# Altium footprint library Altium_WE_eiSos_WE-DS Solder Cup-TH.PcbLib: 8 footprints
Each footprint in its own frame and in the unit in brackets; x right, y up, seen from the top. Pads: shape width x height; smd on the part's side, far side on the other; paste and mask are expansions set on the pad; w line width, h text height; cw(c..) or ccw(c..) is an arc to the next point about the centre after c.
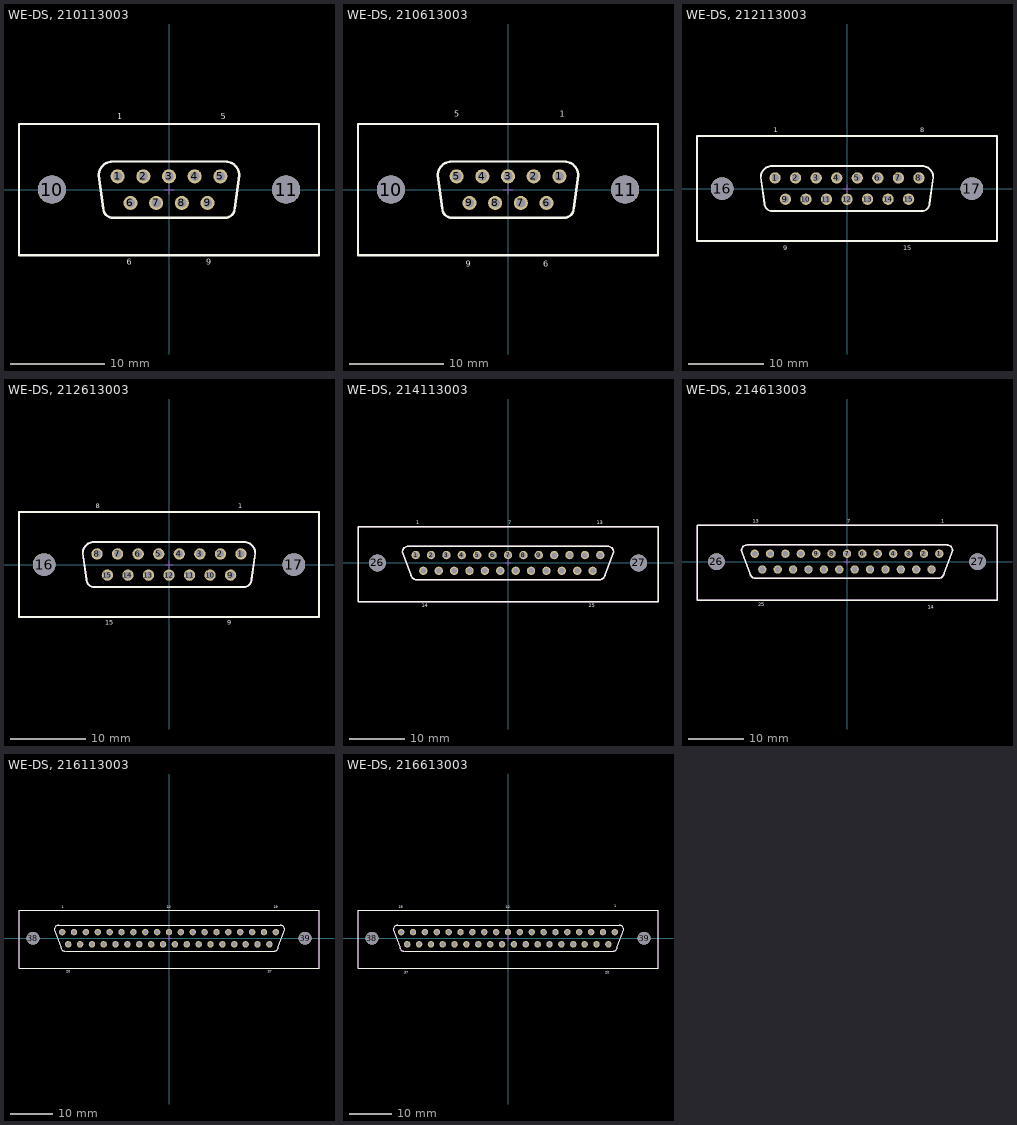
[diagram p0: the footprints below, top view; thin cyan lines are the x and y axes]

## WE-DS, 210113003 [mm] "D-SUB- 9P, MALE, SOLDER BUCKET VERTICAL MOUNT, TH"
height 12
pads (11):
  round 1.5 hole 1 unplated: 1(-5.48,1.42) 2(-2.74,1.42) 3(0,1.42) 4(2.74,1.42) 5(5.48,1.42) 6(-4.11,-1.42) 7(-1.37,-1.42) 8(1.37,-1.42) 9(4.11,-1.42)
  round 3 hole 3 unplated: 10(-12.5,0) 11(12.5,0)
Top Overlay:
  lines w0.254: -5.996,-3.004 cw(c-5.996,-2) -7,-2 -7.5,1.5 cw(c-6,1.5) -6,3 6,3 cw(c6,1.5) 7.5,1.5 7,-2 cw(c5.996,-2) 5.996,-3.004 ; -5.996,-3 6,-3 ; -16,-7 16,-7 16,7 -16,7 -16,0 -16,-7
  text "5" at 5.5,7.5 h0.64
  text "1" at -5.5,7.5 h0.64
  text "9" at 4,-8 h0.64
  text "6" at -4.5,-8 h0.64
Mechanical 15:
  lines w0.102: -0.5,0 0.5,0 ; 0,-0.5 0,0.5
3D body: height 12.5, standoff -4.8, extent -15.4,-6.2 15.4,6.2

## WE-DS, 210613003 [mm] "D-SUB- 9P, FEMALE, SOLDER BUCKET VERTICAL MOUNT, TH"
height 12
pads (11):
  round 1.5 hole 1 unplated: 1(5.48,1.42) 2(2.74,1.42) 3(0,1.42) 4(-2.74,1.42) 5(-5.48,1.42) 6(4.11,-1.42) 7(1.37,-1.42) 8(-1.37,-1.42) 9(-4.11,-1.42)
  round 3 hole 3 unplated: 10(-12.5,0) 11(12.5,0)
Top Overlay:
  lines w0.254: -5.996,-3.004 cw(c-5.996,-2) -7,-2 -7.5,1.5 cw(c-6,1.5) -6,3 6,3 cw(c6,1.5) 7.5,1.5 7,-2 cw(c5.996,-2) 5.996,-3.004 ; -5.996,-3 6,-3 ; -16,-7 16,-7 16,7 -16,7 -16,0 -16,-7
  text "9" at -4.5,-8.25 h0.64
  text "6" at 3.75,-8.25 h0.64
  text "1" at 5.5,7.75 h0.64
  text "5" at -5.75,7.75 h0.64
Mechanical 15:
  lines w0.102: -0.5,0 0.5,0 ; 0,-0.5 0,0.5
3D body: height 12.65, standoff -4.8, extent -15.4,-6.2 15.4,6.2

## WE-DS, 212113003 [mm] "D-SUB- 15P, MALE, SOLDER BUCKET, TH"
height 12
pads (17):
  round 1.5 hole 1 unplated: 1(-9.59,1.42) 2(-6.85,1.42) 3(-4.11,1.42) 4(-1.37,1.42) 5(1.37,1.42) 6(4.11,1.42) 7(6.85,1.42) 8(9.59,1.42) 9(-8.22,-1.42) 10(-5.48,-1.42) 11(-2.74,-1.42) 12(0,-1.42) 13(2.74,-1.42) 14(5.48,-1.42) 15(8.22,-1.42)
  round 3 hole 3 unplated: 16(-16.65,0) 17(16.65,0)
Top Overlay:
  lines w0.254: 9.996,-3.004 ccw(c9.996,-2) 11,-2 11.5,1.5 ccw(c10,1.5) 10,3 -10,3 ccw(c-10,1.5) -11.5,1.5 -11,-2 ccw(c-9.996,-2) -9.996,-3.004 9.996,-2.999 ; -20,-7 20,-7 20,7 -20,7 -20,0 -20,-7
  text "1" at -9.75,7.5 h0.64
  text "8" at 9.75,7.5 h0.64
  text "15" at 7.5,-8.25 h0.64
  text "9" at -8.5,-8.25 h0.64
Mechanical 15:
  lines w0.102: -0.5,0 0.5,0 ; 0,-0.5 0,0.5
3D body: height 12.5, standoff -4.8, extent -19.6,-6.2 19.6,6.2

## WE-DS, 212613003 [mm] "D-SUB- 15P, FEMALE, SOLDER BUCKET, TH"
height 12
pads (17):
  round 1.5 hole 1 unplated: 1(9.59,1.42) 2(6.85,1.42) 3(4.11,1.42) 4(1.37,1.42) 5(-1.37,1.42) 6(-4.11,1.42) 7(-6.85,1.42) 8(-9.59,1.42) 9(8.22,-1.42) 10(5.48,-1.42) 11(2.74,-1.42) 12(0,-1.42) 13(-2.74,-1.42) 14(-5.48,-1.42) 15(-8.22,-1.42)
  round 3 hole 3 unplated: 16(-16.65,0) 17(16.65,0)
Top Overlay:
  lines w0.254: 9.996,-3.004 ccw(c9.996,-2) 11,-2 11.5,1.5 ccw(c10,1.5) 10,3 -10,3 ccw(c-10,1.5) -11.5,1.5 -11,-2 ccw(c-9.996,-2) -9.996,-3.004 9.996,-2.999 ; -20,-7 -20,0 -20,7 20,7 20,-7 -20,-7
  text "9" at 7.75,-8 h0.64
  text "1" at 9.25,7.5 h0.64
  text "8" at -9.75,7.5 h0.64
  text "15" at -8.5,-8 h0.64
Mechanical 15:
  lines w0.102: -0.5,0 0.5,0 ; 0,-0.5 0,0.5
  lines w0.254: 9.996,-3.004 ccw(c9.996,-2) 11,-2 11.5,1.5 ccw(c10,1.5) 10,3 -10,3 ccw(c-10,1.5) -11.5,1.5 -11,-2 ccw(c-9.996,-2) -9.996,-3.004 9.996,-2.999 ; -20,-7 20,-7 20,7 -20,7 -20,0 -20,-7
3D body: height 12.65, standoff -4.8, extent -19.6,-6.2 19.6,6.2

## WE-DS, 214113003 [mm] "D-SUB- 25P, MALE, SOLDER BUCKET,TH"
height 12
pads (27):
  round 1.5 hole 1 unplated: 1(-16.62,1.42) 2(-13.85,1.42) 3(-11.08,1.42) 4(-8.31,1.42) 5(-5.54,1.42) 6(-2.77,1.42) 7(0,1.42) 8(2.77,1.42) 9(5.54,1.42) 10(8.31,1.42) 11(11.08,1.42) 12(13.85,1.42) 13(16.62,1.42) 14(-15.24,-1.42) 15(-12.47,-1.42) 16(-9.7,-1.42) 17(-6.93,-1.42) 18(-4.16,-1.42) 19(-1.39,-1.42) 20(1.38,-1.42) 21(4.15,-1.42) 22(6.92,-1.42) 23(9.69,-1.42) 24(12.46,-1.42) 25(15.23,-1.42)
  round 3 hole 3 unplated: 26(-23.5,0) 27(23.5,0)
Top Overlay:
  lines w0.254: -27,-7 -27,6.5 27,6.5 27,-7 -27,-7 ; -19,2 cw(c-18,2) -18,3 18,3 cw(c18,2) 19,2 17.5,-2 cw(c16.5,-2) 16.5,-3 -16.5,-3 cw(c-16.5,-2) -17.5,-2 -19,2
  text "14" at -15.5,-8 h0.64
  text "25" at 14.5,-8 h0.64
  text "13" at 16,7 h0.64
  text "7" at 0,7 h0.64
  text "1" at -16.5,7 h0.64
Mechanical 15:
  lines w0.102: -0.5,0 0.5,0 ; 0,-0.5 0,0.5
  lines w0.254: -27,-7 27,-7 27,6.5 -27,6.5 -27,-7 ; -19,2 cw(c-18,2) -18,3 18,3 cw(c18,2) 19,2 17.5,-2 cw(c16.5,-2) 16.5,-3 -16.5,-3 cw(c-16.5,-2) -17.5,-2 -19,2

## WE-DS, 214613003 [mm] "D-SUB- 25P, FEMALE, SOLDER BUCKET, TH"
height 12
pads (27):
  round 1.5 hole 1 unplated: 1(16.62,1.42) 2(13.85,1.42) 3(11.08,1.42) 4(8.31,1.42) 5(5.54,1.42) 6(2.77,1.42) 7(0,1.42) 8(-2.77,1.42) 9(-5.54,1.42) 10(-8.31,1.42) 11(-11.08,1.42) 12(-13.85,1.42) 13(-16.62,1.42) 14(15.23,-1.42) 15(12.46,-1.42) 16(9.69,-1.42) 17(6.92,-1.42) 18(4.15,-1.42) 19(1.38,-1.42) 20(-1.39,-1.42) 21(-4.16,-1.42) 22(-6.93,-1.42) 23(-9.7,-1.42) 24(-12.47,-1.42) 25(-15.24,-1.42)
  round 3 hole 3 unplated: 26(-23.5,0) 27(23.5,0)
Top Overlay:
  lines w0.254: -27,-7 -27,6.5 27,6.5 27,-7 -27,-7 ; -19,2 cw(c-18,2) -18,3 18,3 cw(c18,2) 19,2 17.5,-2 cw(c16.5,-2) 16.5,-3 -16.5,-3 cw(c-16.5,-2) -17.5,-2 -19,2
  text "25" at -16,-8 h0.64
  text "14" at 14.5,-8.5 h0.64
  text "1" at 17,7 h0.64
  text "7" at 0,7 h0.64
  text "13" at -17,7 h0.64
Mechanical 15:
  lines w0.102: -0.5,0 0.5,0 ; 0,-0.5 0,0.5
  lines w0.254: -27,-7 27,-7 27,6.5 -27,6.5 -27,-7 ; -19,2 cw(c-18,2) -18,3 18,3 cw(c18,2) 19,2 17.5,-2 cw(c16.5,-2) 16.5,-3 -16.5,-3 cw(c-16.5,-2) -17.5,-2 -19,2

## WE-DS, 216113003 [mm] "D-SUB- 37P, MALE, SOLDER BUCKET, TH"
height 12
pads (39):
  round 1.5 hole 1 unplated: 1(-24.93,1.42) 2(-22.16,1.42) 3(-19.39,1.42) 4(-16.62,1.42) 5(-13.85,1.42) 6(-11.08,1.42) 7(-8.31,1.42) 8(-5.54,1.42) 9(-2.77,1.42) 10(0,1.42) 11(2.77,1.42) 12(5.54,1.42) 13(8.31,1.42) 14(11.08,1.42) 15(13.85,1.42) 16(16.62,1.42) 17(19.39,1.42) 18(22.16,1.42) 19(24.93,1.42) 20(-23.52,-1.42) 21(-20.75,-1.42) 22(-17.98,-1.42) 23(-15.24,-1.42) 24(-12.47,-1.42) 25(-9.7,-1.42) 26(-6.93,-1.42) 27(-4.16,-1.42) 28(-1.39,-1.42) 29(1.38,-1.42) 30(4.15,-1.42) 31(6.92,-1.42) 32(9.69,-1.42) 33(12.46,-1.42) 34(15.23,-1.42) 35(17.88,-1.42) 36(20.65,-1.42) 37(23.42,-1.42)
  round 3 hole 3 unplated: 38(-31.75,0) 39(31.75,0)
Top Overlay:
  lines w0.254: -26,3 26,3 cw(c26,2) 27,2 25.5,-2 cw(c24.5,-2) 24.5,-3 -24,-3 ; -25.75,3 ccw(c-25.75,2) -26.75,2 -25.25,-2 ccw(c-24.25,-2) -24.25,-3 ; -35,-7 -35,6.5 35,6.5 35,-7 -35,-7
  text "20" at -24,-8 h0.64
  text "37" at 23,-8 h0.64
  text "19" at 24.5,7 h0.64
  text "10" at -0.5,7 h0.64
  text "1" at -25,7 h0.64
Mechanical 15:
  lines w0.102: -0.5,0 0.5,0 ; 0,-0.5 0,0.5
  lines w0.254: -35,-7 35,-7 35,6.5 -35,6.5 -35,-7 ; -26.75,2 cw(c-25.75,2) -25.75,3 26,3 cw(c26,2) 27,2 25.5,-2 cw(c24.5,-2) 24.5,-3 -24.25,-3 cw(c-24.25,-2) -25.25,-2 -26.75,2

## WE-DS, 216613003 [mm] "D-SUB- 37P, FEMALE, SOLDER BUCKET, TH"
height 12
pads (39):
  round 1.5 hole 1 unplated: 1(24.93,1.42) 2(22.16,1.42) 3(19.39,1.42) 4(16.62,1.42) 5(13.85,1.42) 6(11.08,1.42) 7(8.31,1.42) 8(5.54,1.42) 9(2.77,1.42) 10(0,1.42) 11(-2.77,1.42) 12(-5.54,1.42) 13(-8.31,1.42) 14(-11.08,1.42) 15(-13.85,1.42) 16(-16.62,1.42) 17(-19.39,1.42) 18(-22.16,1.42) 19(-24.93,1.42) 20(23.42,-1.42) 21(20.65,-1.42) 22(17.88,-1.42) 23(15.23,-1.42) 24(12.46,-1.42) 25(9.69,-1.42) 26(6.92,-1.42) 27(4.15,-1.42) 28(1.38,-1.42) 29(-1.39,-1.42) 30(-4.16,-1.42) 31(-6.93,-1.42) 32(-9.7,-1.42) 33(-12.47,-1.42) 34(-15.24,-1.42) 35(-17.98,-1.42) 36(-20.75,-1.42) 37(-23.52,-1.42)
  round 3 hole 3 unplated: 38(-31.75,0) 39(31.75,0)
Top Overlay:
  lines w0.254: -26,3 26,3 cw(c26,2) 27,2 25.5,-2 cw(c24.5,-2) 24.5,-3 -24,-3 ; -25.75,3 ccw(c-25.75,2) -26.75,2 -25.25,-2 ccw(c-24.25,-2) -24.25,-3 ; -35,-7 35,-7 35,6.5 -35,6.5 -35,-7
  text "10" at -0.5,7 h0.64
  text "19" at -25.5,7 h0.64
  text "37" at -24.25,-8.25 h0.64
  text "1" at 24.75,7.25 h0.64
  text "20" at 22.75,-8.25 h0.64
Mechanical 15:
  lines w0.102: -0.5,0 0.5,0 ; 0,-0.5 0,0.5
  lines w0.254: -35,-7 -35,6.5 35,6.5 35,-7 -35,-7 ; -26.75,2 cw(c-25.75,2) -25.75,3 26,3 cw(c26,2) 27,2 25.5,-2 cw(c24.5,-2) 24.5,-3 -24.25,-3 cw(c-24.25,-2) -25.25,-2 -26.75,2